# Altium schematic symbol library TPS7A470X.Schlib: 1 symbol
Pins are listed as number, name and electrical type; pins without a type are passive.

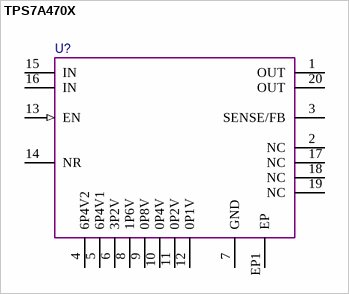
[diagram p0: symbol TPS7A470X]

## TPS7A470X
designator U?  (value not drawn)
pins: 1 OUT (power), 2 NC, 3 SENSE/FB, 4 6P4V2, 5 6P4V1, 6 3P2V, 7 GND (power), 8 1P6V, 9 0P8V, 10 0P4V, 11 0P2V, 12 0P1V, 13 EN (in), 14 NR, 15 IN (power), 16 IN (power), 17 NC, 18 NC, 19 NC, 20 OUT (power), EP1 EP (power)